# Altium footprint library QFN50P300X300X100-16N.PcbLib: 1 footprints
Each footprint in its own frame and in the unit in brackets; x right, y up, seen from the top. Pads: shape width x height; smd on the part's side, far side on the other; paste and mask are expansions set on the pad; w line width, h text height; cw(c..) or ccw(c..) is an arc to the next point about the centre after c.
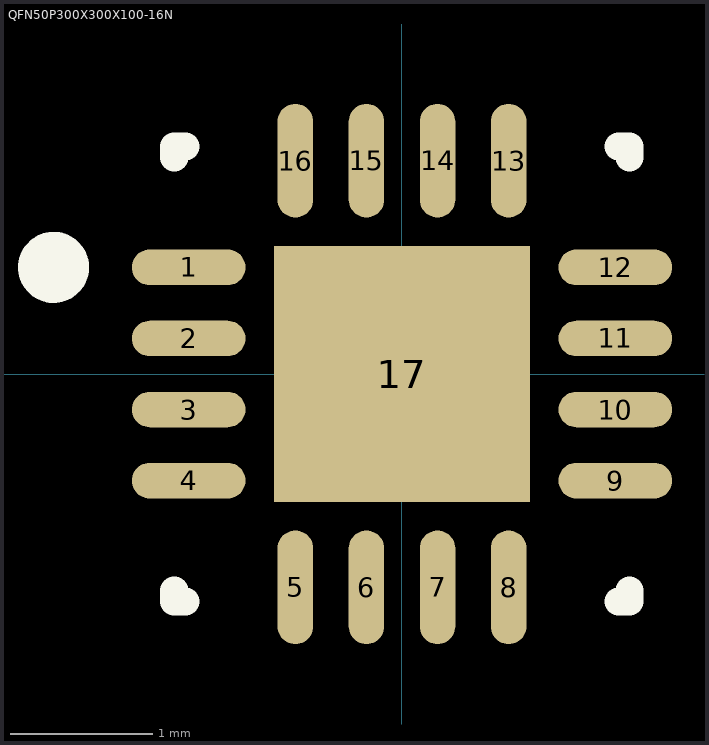
[diagram p0: the footprint, top view; thin cyan lines are the x and y axes]

## QFN50P300X300X100-16N [mm] "QFN, 16-Leads, Body 3.2x3.2mm (max), Pitch 0.50mm"
height 1
pads (17):
  oval 0.8x0.25 smd: 1(-1.5,0.75) 2(-1.5,0.25) 3(-1.5,-0.25) 4(-1.5,-0.75) 9(1.5,-0.75) 10(1.5,-0.25) 11(1.5,0.25) 12(1.5,0.75)
  oval 0.25x0.8 smd: 5(-0.75,-1.5) 6(-0.25,-1.5) 7(0.25,-1.5) 8(0.75,-1.5) 13(0.75,1.5) 14(0.25,1.5) 15(-0.25,1.5) 16(-0.75,1.5)
  rect 1.8x1.8 smd: 17(0,0)
Top Overlay:
  circle w0.25: c-2.45,0.75 r0.125
  lines w0.2: -1.6,-1.525 -1.6,-1.6 -1.525,-1.6 ; -1.6,1.525 -1.6,1.6 -1.525,1.6 ; 1.525,-1.6 1.6,-1.6 1.6,-1.525 ; 1.525,1.6 1.6,1.6 1.6,1.525
3D body: height 1, standoff 0.08, extent -1.575,-1.575 1.575,1.575